# Altium footprint library PcbLib.PcbLib: 59 footprints (part 3 of 4)
Each footprint in its own frame and in the unit in brackets; x right, y up, seen from the top. Pads: shape width x height; smd on the part's side, far side on the other; paste and mask are expansions set on the pad; w line width, h text height; cw(c..) or ccw(c..) is an arc to the next point about the centre after c.
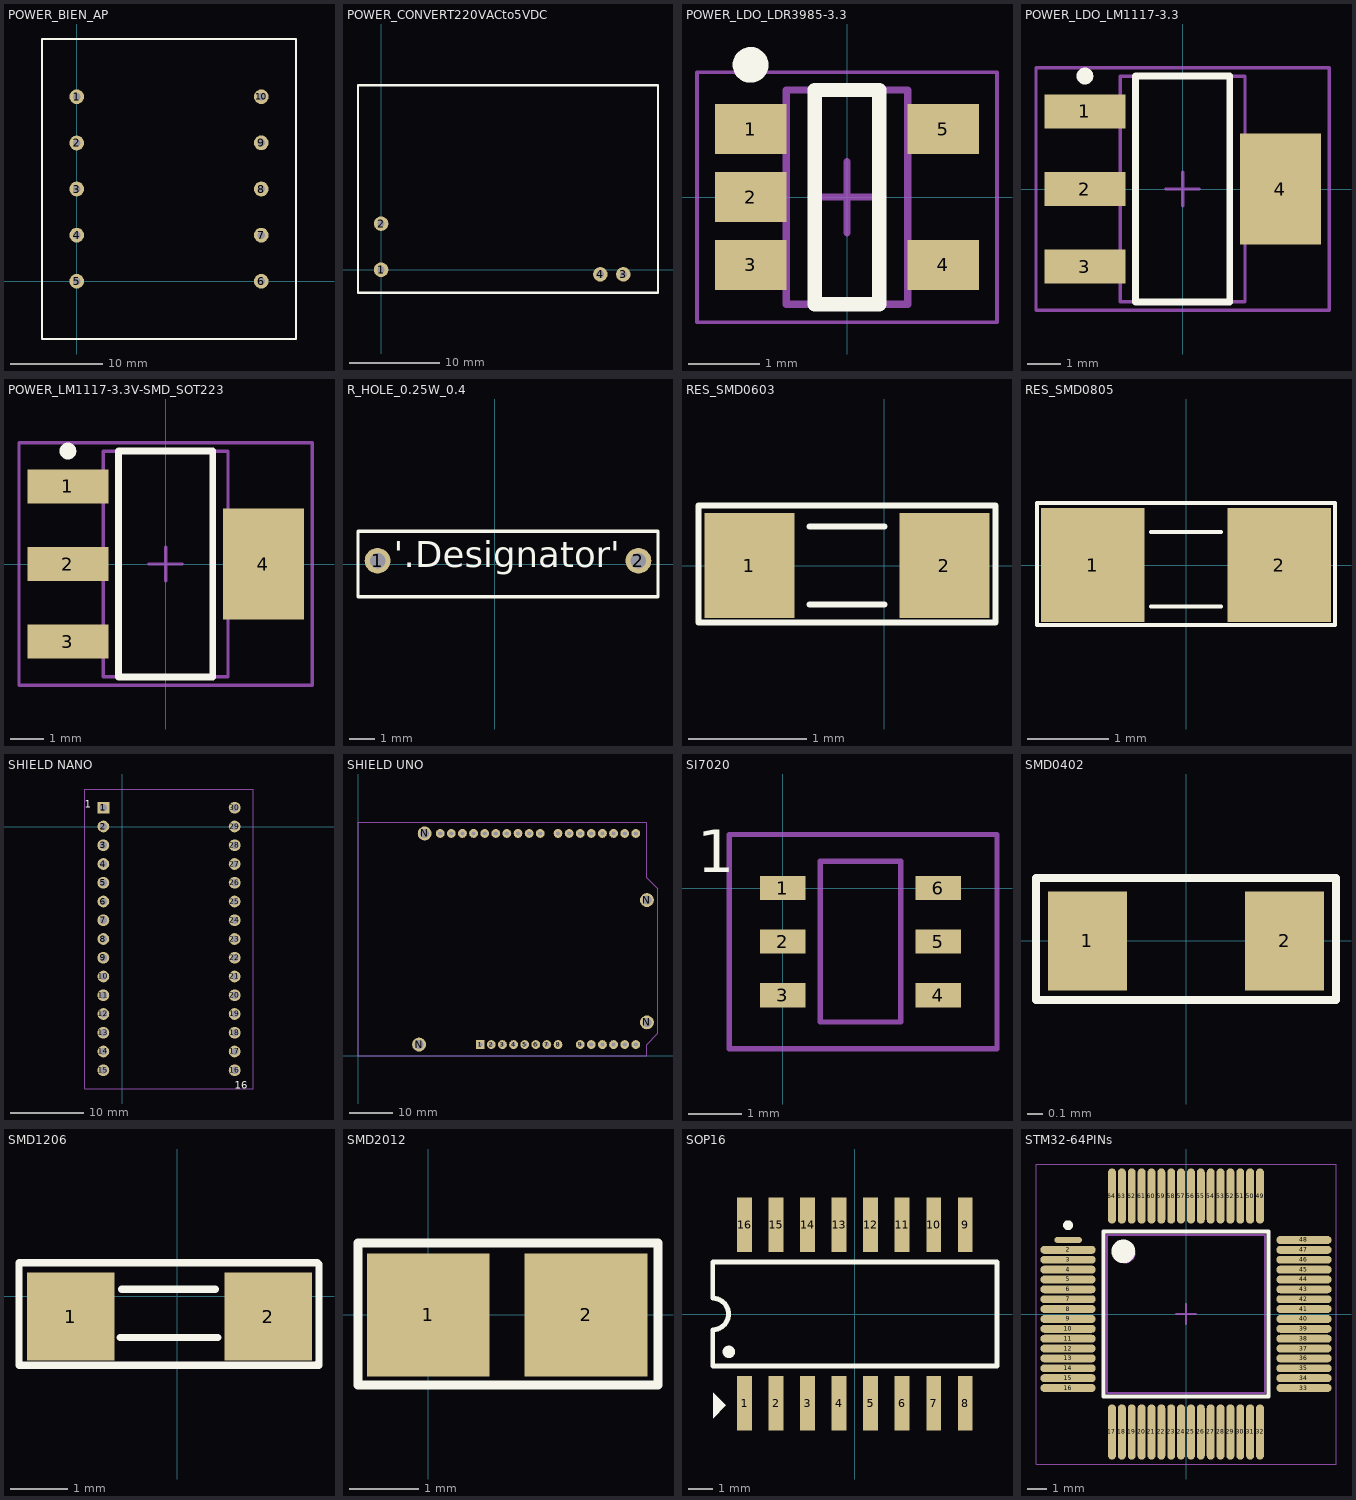
[diagram p2: the footprints below, top view; thin cyan lines are the x and y axes]

## POWER_BIEN_AP [mm]
pads (10):
  round 1.6 hole 0.8: 1(0,20) 2(0,14.986) 3(0,10) 4(0,5) 5(0,0) 6(20,0) 7(20,5) 8(20,10) 9(20,15) 10(20,20)
Top Overlay:
  lines w0.254: -3.75,-6.25 23.75,-6.25 23.75,26.25 -3.75,26.25 -3.75,-6.25
3D body: height 24, standoff 21.7, extent 2.286,-2.54 17.78,22.86
3D body: height 21.5, standoff 0.2, extent -2.54,-5.08 22.86,25.4

## POWER_CONVERT220VACto5VDC [mm]
pads (4):
  round 1.6 hole 0.8: 1(0,0) 2(0,5.08) 3(26.67,-0.508) 4(24.13,-0.5)
Top Overlay:
  lines w0.254: -2.54,-2.54 -2.54,20.32 30.48,20.32 30.48,-2.54 -2.54,-2.54
3D body: height 15, standoff 0.2, extent -1.27,-1.27 29.21,19.05

## POWER_LDO_LDR3985-3.3 [mm] "SOT23, 5-Leads, Body 2.90x2.80mm, Pitch 0.95mm, IPC Medium Density"
height 0.9
pads (5):
  rect 1x0.7 smd: 1(-1.35,0.95) 2(-1.35,0) 3(-1.35,-0.95) 4(1.35,-0.95) 5(1.35,0.95)
Top Overlay:
  circle w0.25: c-1.35,1.85 r0.125
  lines w0.2: -0.45,-1.5 0.45,-1.5 0.45,1.5 -0.45,1.5 -0.45,-1.5
Mechanical 13:
  lines w0.1: -0.85,-1.5 -0.85,1.5 0.85,1.5 0.85,-1.5 -0.85,-1.5
Mechanical 15:
  lines w0.05: -2.1,-1.75 -2.1,1.75 2.1,1.75 2.1,-1.75 -2.1,-1.75
  lines w0.1: -0.5,0 0.5,0 ; 0,-0.5 0,0.5
3D body: height 0.9, standoff 0.05, extent -0.85,-1.5 0.85,1.5

## POWER_LDO_LM1117-3.3 [mm] "SOT223, 4-Leads, Body 6.5x3.5mm, Pitch 2.3mm, Lead Span 7mm, IPC Medium Density"
height 1.8
pads (4):
  rect 2.4x1 smd: 1(-2.9,2.3) 2(-2.9,0) 3(-2.9,-2.3)
  rect 2.4x3.3 smd: 4(2.9,0)
Top Overlay:
  circle w0.25: c-2.9,3.35 r0.125
  lines w0.2: -1.4,-3.35 1.4,-3.35 1.4,3.35 -1.4,3.35 -1.4,-3.35
Mechanical 13:
  lines w0.1: -1.85,-3.35 1.85,-3.35 1.85,3.35 -1.85,3.35 -1.85,-3.35
Mechanical 15:
  lines w0.1: -0.5,0 0.5,0 ; 0,-0.5 0,0.5 ; -4.35,-3.6 4.35,-3.6 4.35,3.6 -4.35,3.6 -4.35,-3.6
3D body: height 1.8, standoff 0, extent -1.85,-3.35 1.85,3.35

## POWER_LM1117-3.3V-SMD_SOT223 [mm] "SOT223, 4-Leads, Body 6.5x3.5mm, Pitch 2.3mm, Lead Span 7mm, IPC Medium Density"
height 1.8
pads (4):
  rect 2.4x1 smd: 1(-2.9,2.3) 2(-2.9,0) 3(-2.9,-2.3)
  rect 2.4x3.3 smd: 4(2.9,0)
Top Overlay:
  circle w0.25: c-2.9,3.35 r0.125
  lines w0.2: -1.4,-3.35 1.4,-3.35 1.4,3.35 -1.4,3.35 -1.4,-3.35
Mechanical 13:
  lines w0.1: -1.85,-3.35 1.85,-3.35 1.85,3.35 -1.85,3.35 -1.85,-3.35
Mechanical 15:
  lines w0.1: -0.5,0 0.5,0 ; 0,-0.5 0,0.5 ; -4.35,-3.6 4.35,-3.6 4.35,3.6 -4.35,3.6 -4.35,-3.6
3D body: height 1.8, standoff 0, extent -1.85,-3.35 1.85,3.35

## R_HOLE_0.25W_0.4 [mm]
pads (2):
  round 1 hole 0.6: 1(-4.572,0.127) 2(5.588,0.127)
Top Overlay:
  lines w0.13: -5.334,-1.27 -5.334,1.27 6.35,1.27 6.35,-1.27 -5.334,-1.27
  text "'.Designator'" at -3.937,-0.127 h1.02
3D body "User Library-RESISTOR, 0_25 W, 0_4 IN LEAD PITCH.step": height 2.93, standoff -2.54, extent -4.826,-1.041 5.944,1.27

## RES_SMD0603 [mil] "Compoment SMD 60x30mil"
height 50
pads (2):
  rect 30x35 smd: 1(-45,0) 2(20,0)
Top Overlay:
  lines w2: -25,-13 0,-13 ; -25,13 0,13 ; -62,-19 -52.75,-19 -0.25,-19 37,-19 37,20 -62,20 -62,-19
3D body "SW3DPS-RESISTOR 0603-DEFAULT.STEP": height 18.9, standoff -1.18, extent -46.49,-16.92 16.51,16.93

## RES_SMD0805 [mil] "Compoment SMD 80x50mil"
height 50
pads (2):
  rect 50x55 smd: 1(-45,0) 2(45,0)
Top Overlay:
  lines w2: -17,-20 17,-20 ; -17,16 17,16 ; -72,-29 -72,30 72,30 72,-29 -72,-29
3D body "SW3dPS-smt_resistor_packages.STEP": height 24.02, standoff -0.39, extent -39.76,-27 39.77,23

## SHIELD NANO [mm]
pads (30):
  rect 1.6x1.6 hole 1: 1(-2.54,2.54)
  round 1.6 hole 1: 2(-2.54,0) 3(-2.54,-2.54) 4(-2.54,-5.08) 5(-2.54,-7.62) 6(-2.54,-10.16) 7(-2.54,-12.7) 8(-2.54,-15.24) 9(-2.54,-17.78) 10(-2.54,-20.32) 11(-2.54,-22.86) 12(-2.54,-25.4) 13(-2.54,-27.94) 14(-2.54,-30.48) 15(-2.54,-33.02) 16(15.24,-33.02) 17(15.24,-30.48) 18(15.24,-27.94) 19(15.24,-25.4) 20(15.24,-22.86) 21(15.24,-20.32) 22(15.24,-17.78) 23(15.24,-15.24) 24(15.24,-12.7) 25(15.24,-10.16) 26(15.24,-7.62) 27(15.24,-5.08) 28(15.24,-2.54) 29(15.24,0) 30(15.24,2.54)
Top Overlay:
  text "16" at 15.24,-35.56 h1
  text "1" at -5.08,2.54 h1
Mechanical 1:
  lines w0.1: -5.08,-35.56 17.78,-35.56 17.78,5.08 -5.08,5.08 -5.08,-35.56

## SHIELD UNO [mm]
pads (36):
  rect 2x2 hole 1: 1(27.94,2.54)
  round 2 hole 1: 2(30.48,2.54) 3(33.02,2.54) 4(35.56,2.54) 5(38.1,2.54) 6(40.64,2.54) 7(43.18,2.54) 8(45.72,2.54) 9(50.8,2.54) 10(53.34,2.54) 11(55.88,2.54) 12(58.42,2.54) 13(60.96,2.54) 14(63.5,2.54) 15(63.5,50.8) 16(60.96,50.8) 17(58.42,50.8) 18(55.88,50.8) 19(53.34,50.8) 20(50.8,50.8) 21(48.26,50.8) 22(45.72,50.8) 23(41.656,50.8) 24(39.116,50.8) 25(36.576,50.8) 26(34.036,50.8) 27(31.496,50.8) 28(28.956,50.8) 29(26.416,50.8) 30(23.876,50.8) 31(21.336,50.8) 32(18.796,50.8)
  round 3.175 hole 2.032: N(13.97,2.54) N(15.24,50.8) N(66.04,7.62) N(66.04,35.56)
Mechanical 1:
  lines w0.254: 0,0 0,2.54 0,53.34 66.04,53.34 66.04,50.8 66.04,40.64 68.58,38.1 68.58,5.08 66.04,2.54 66.04,0 0,0

## SI7020 [mm] "DFN, 4-Leads, Body 3.00x3.00mm, Pitch 0.65mm, IPC Medium Density"
height 0.8
pads (6):
  rect 0.85x0.45 smd: 1(0,0) 2(0,-1) 3(0,-2) 4(2.9,-2) 5(2.9,-1) 6(2.9,0)
Top Overlay:
  text "1" at -1.6,0.3 h0.8
Mechanical 1:
  lines w0.1: 2.2,-2.3 2.2,-2.5 0.7,-2.5 0.7,0.5 2.2,0.5 ; -1,-3 -1,1 4,1 4,-3 -1,-3
Mechanical 13:
  lines w0.1: 2.2,-2.3 2.2,0.5

## SMD0402 [mil]
pads (2):
  rect 20x25 smd: 1(-25,0) 2(25,0)
Top Overlay:
  lines w2: -38,-15 -38,16 38,16 38,-15 -38,-15
3D body "User Library-Chip Resistor_0402 (1005).STEP": height 14.37, standoff 0, extent -19.68,-9.76 19.68,10

## SMD1206 [mil]
pads (2):
  rect 60x60 smd: 1(-72.68,-13.74) 2(62.32,-13.74)
Top Overlay:
  lines w5: -39,-28 28,-28 ; -38,5 26,5 ; 96,-46 97,-47 ; 96,23 -108,23 -108,-47 97,-47 ; 97,22 97,-47
3D body "SW3DPS-RESISTOR 1206-DEFAULT.STEP": height 20.87, standoff -1.18, extent -68.99,-45.67 57,19.68

## SMD2012 [mil]
pads (2):
  rect 70x70 smd: 1(0,0) 2(90,0)
Top Overlay:
  lines w5: -40,-40 -40,41 131,41 131,-40 -40,-40
3D body "User Library-CAPC2012X___.STEP": height 25, standoff -25, extent 7.64,-11.44 86.37,11

## SOP16 [mm] "Small Outline; 16 Leads; Body Width 5.6 mm; Pitch 1.27 mm"
height 2
pads (16):
  rect 0.6x2.2 smd: 1(-4.445,-3.6) 2(-3.175,-3.6) 3(-1.905,-3.6) 4(-0.635,-3.6) 5(0.635,-3.6) 6(1.905,-3.6) 7(3.175,-3.6) 8(4.445,-3.6) 9(4.445,3.6) 10(3.175,3.6) 11(1.905,3.6) 12(0.635,3.6) 13(-0.635,3.6) 14(-1.905,3.6) 15(-3.175,3.6) 16(-4.445,3.6)
Top Overlay:
  circle w0.25: c-5.078,-1.524 r0.125
  region: -5.715,-4.191 -5.207,-3.683 -5.715,-3.175
  lines w0.2: -5.725,-2.1 -5.725,-0.635 ccw(c-5.725,0) -5.725,0.635 -5.725,2.1 5.725,2.1 5.725,-2.1 -5.725,-2.1

## STM32-64PINs [mm] "SQFP, 64-Leads, Body 8.00x8.00mm, Pitch 0.50mm, IPC Medium Density"
height 2.45
pads (64):
  oval 1.4x0.3 smd: 1(-5.975,3.75)
  oval 2.8x0.4 smd: 2(-5.975,3.25) 3(-5.975,2.75) 4(-5.975,2.25) 5(-5.975,1.75) 6(-5.975,1.25) 7(-5.975,0.75) 8(-5.975,0.25) 9(-5.975,-0.25) 10(-5.975,-0.75) 11(-5.975,-1.25) 12(-5.975,-1.75) 13(-5.975,-2.25) 14(-5.975,-2.75) 15(-5.975,-3.25) 16(-5.975,-3.75) 33(5.975,-3.75) 34(5.975,-3.25) 35(5.975,-2.75) 36(5.975,-2.25) 37(5.975,-1.75) 38(5.975,-1.25) 39(5.975,-0.75) 40(5.975,-0.25) 41(5.975,0.25) 42(5.975,0.75) 43(5.975,1.25) 44(5.975,1.75) 45(5.975,2.25) 46(5.975,2.75) 47(5.975,3.25) 48(5.975,3.75)
  oval 0.4x2.8 smd: 17(-3.75,-5.975) 18(-3.25,-5.975) 19(-2.75,-5.975) 20(-2.25,-5.975) 21(-1.75,-5.975) 22(-1.25,-5.975) 23(-0.75,-5.975) 24(-0.25,-5.975) 25(0.25,-5.975) 26(0.75,-5.975) 27(1.25,-5.975) 28(1.75,-5.975) 29(2.25,-5.975) 30(2.75,-5.975) 31(3.25,-5.975) 32(3.75,-5.975) 49(3.75,5.975) 50(3.25,5.975) 51(2.75,5.975) 52(2.25,5.975) 53(1.75,5.975) 54(1.25,5.975) 55(0.75,5.975) 56(0.25,5.975) 57(-0.25,5.975) 58(-0.75,5.975) 59(-1.25,5.975) 60(-1.75,5.975) 61(-2.25,5.975) 62(-2.75,5.975) 63(-3.25,5.975) 64(-3.75,5.975)
Top Overlay:
  circle w0.6: c-3.175,3.175 r0.3
  circle w0.25: c-5.975,4.5 r0.125
  lines w0.2: -4.175,-4.175 4.175,-4.175 4.175,4.175 -4.175,4.175 -4.175,-4.175
Mechanical 13:
  circle w0.1: c-3.1,3.1 r0.5
  lines w0.1: -4,-4 4,-4 4,4 -4,4 -4,-4
Mechanical 15:
  lines w0.05: -7.6,-7.6 7.6,-7.6 7.6,7.6 -7.6,7.6 -7.6,-7.6
  lines w0.1: -0.5,0 0.5,0 ; 0,-0.5 0,0.5
3D body: height 2.45, standoff 0.25, extent -4,-4 4,4